# Altium footprint library FFC3B0706T.PcbLib: 1 footprints
Each footprint in its own frame and in the unit in brackets; x right, y up, seen from the top. Pads: shape width x height; smd on the part's side, far side on the other; paste and mask are expansions set on the pad; w line width, h text height; cw(c..) or ccw(c..) is an arc to the next point about the centre after c.
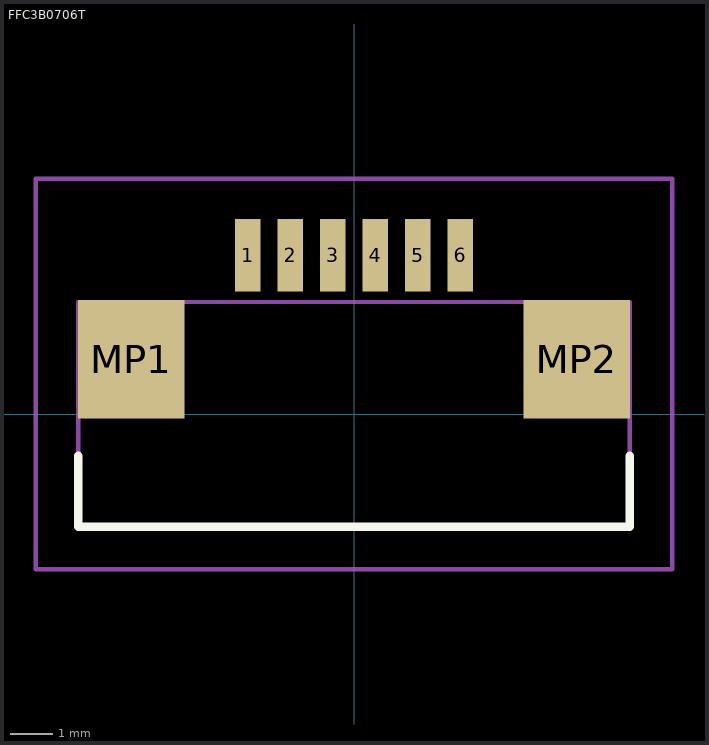
[diagram p0: the footprint, top view; thin cyan lines are the x and y axes]

## FFC3B0706T [mm]
pads (8):
  rect 0.6x1.7 smd: 1(-2.5,3.75) 2(-1.5,3.75) 3(-0.5,3.75) 4(0.5,3.75) 5(1.5,3.75) 6(2.5,3.75)
  rect 2.5x2.8 smd: MP1(-5.25,1.3) MP2(5.25,1.3)
Top Overlay:
  lines w0.2: -6.5,-0.975 -6.5,-2.65 6.5,-2.65 6.5,-0.975
Mechanical 15:
  lines w0.1: -6.5,-2.65 6.5,-2.65 6.5,2.65 -6.5,2.65 -6.5,-2.65
Mechanical 20:
  lines w0.1: -7.5,-3.65 7.5,-3.65 7.5,5.55 -7.5,5.55 -7.5,-3.65